# Altium footprint library volume_knob.PcbLib: 19 footprints (part 2 of 2)
Each footprint in its own frame and in the unit in brackets; x right, y up, seen from the top. Pads: shape width x height; smd on the part's side, far side on the other; paste and mask are expansions set on the pad; w line width, h text height; cw(c..) or ccw(c..) is an arc to the next point about the centre after c.
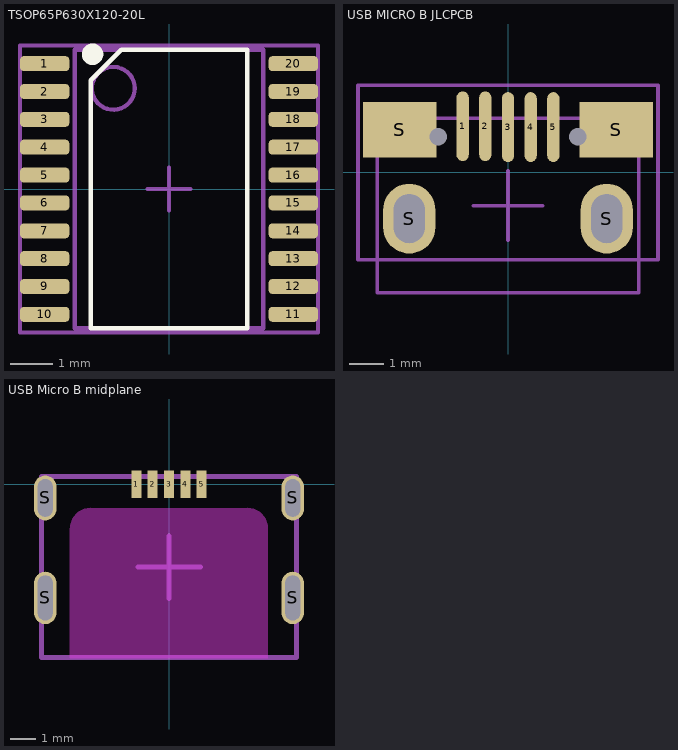
[diagram p1: the footprints below, top view; thin cyan lines are the x and y axes]

## TSOP65P630X120-20L [mm] "TSOPx20 6.45x4.35mm Pitch 0.65mm"
height 1.2
pads (20):
  rrect50% 1.15x0.35 smd: 1(-2.9,2.925) 2(-2.9,2.275) 3(-2.9,1.625) 4(-2.9,0.975) 5(-2.9,0.325) 6(-2.9,-0.325) 7(-2.9,-0.975) 8(-2.9,-1.625) 9(-2.9,-2.275) 10(-2.9,-2.925) 11(2.9,-2.925) 12(2.9,-2.275) 13(2.9,-1.625) 14(2.9,-0.975) 15(2.9,-0.325) 16(2.9,0.325) 17(2.9,0.975) 18(2.9,1.625) 19(2.9,2.275) 20(2.9,2.925)
Top Overlay:
  circle w0.25: c-1.784,3.143 r0.125
  lines w0.102: -1.825,-3.25 -1.825,2.54 -1.115,3.25 1.825,3.25 1.825,-3.25 -1.825,-3.25
Top Courtyard:
  lines w0.1: -0.5,0 0.5,0 ; 0,-0.5 0,0.5
  lines w0.102: -3.475,-3.35 -3.475,3.35 3.475,3.35 3.475,-3.35 -3.475,-3.35
Top Assembly:
  circle w0.1: c-1.299,2.349 r0.5
  lines w0.102: -2.2,-3.25 -2.2,3.25 2.2,3.25 2.2,-3.25 -2.2,-3.25
3D body "TSOP65P630X120-20L.step": height 1.2, standoff 0, extent -3.15,-3.25 3.15,3.25

## USB MICRO B JLCPCB [mm] "USB Micro B Receptacle"
pads (11):
  rrect100% 0.35x2 smd: 1(-1.3,1.325) 2(-0.65,1.325) 3(0,1.3) 4(0.65,1.3) 5(1.3,1.3)
  oval 0x0.5 hole 0.5 unplated paste+0 mask+0: B(-2,1.025) B(2,1.025)
  rrect1% 2.1x1.6 smd: S(-3.1,1.225) S(3.1,1.225)
  oval 1.5x2 hole 0.9 slot 1.4 at 90 deg: S(-2.83,-1.325) S(2.83,-1.325)
Top Courtyard:
  lines w0.102: -4.3,-2.5 4.3,-2.5 4.3,2.5 -4.3,2.5 -4.3,-2.5
Top Assembly:
  lines w0.102: -1,-0.95 1,-0.95 ; 0,-1.95 0,0.05 ; -3.75,-3.45 -3.75,1.55 3.75,1.55 3.75,-3.45 -3.75,-3.45

## USB Micro B midplane [mm] "Molex 47642 Type B Micro USB Receptacle"
pads (9):
  rrect1% 0.4x1.1 smd paste+0 mask+0.05: 1(-1.3,0) 2(-0.65,0) 3(0,0) 4(0.65,0) 5(1.3,0)
  oval 0.9x2.1 hole 0.6 slot 1.8 at 90 deg paste+0 mask+0: S(-4.95,-4.55) S(4.95,-4.55)
  oval 0.9x1.8 hole 0.6 slot 1.5 at 90 deg paste+0 mask+0: S(-4.95,-0.55) S(4.95,-0.55)
Keep-Out Layer:
  board cut-out: -3.95,-6.93 -3.95,-1.77 -3.95,-1.691 -3.919,-1.537 -3.859,-1.391 -3.771,-1.26 -3.66,-1.149 -3.529,-1.061 -3.383,-1.001 -3.229,-0.97 -3.15,-0.97 3.15,-0.97 3.229,-0.97 3.383,-1.001 3.529,-1.061 3.66,-1.149 3.771,-1.26 3.859,-1.391 3.919,-1.537 3.95,-1.691 3.95,-1.77 3.95,-6.93
  pour cut-out: -3.95,-6.934 -3.95,-1.77 -3.95,-1.691 -3.919,-1.537 -3.859,-1.391 -3.771,-1.26 -3.66,-1.149 -3.529,-1.061 -3.383,-1.001 -3.229,-0.97 -3.15,-0.97 3.15,-0.97 3.229,-0.97 3.383,-1.001 3.529,-1.061 3.66,-1.149 3.771,-1.26 3.859,-1.391 3.919,-1.537 3.95,-1.691 3.95,-1.77 3.95,-6.934
Keep-Out Layer:
  lines w0.025: -3.95,-6.934 -3.95,-1.77 cw(c-3.15,-1.77) -3.15,-0.97 3.15,-0.97 cw(c3.15,-1.77) 3.95,-1.77 3.95,-6.934 -3.95,-6.934
Top Courtyard:
  lines w0.2: -5.1,-6.93 5.1,-6.93 5.1,0.3 -5.1,0.3 -5.1,-6.93
Top Assembly:
  lines w0.2: -1.25,-3.315 1.25,-3.315 ; 0,-4.565 0,-2.065 ; -5.1,-6.93 5.1,-6.93 5.1,0.3 -5.1,0.3 -5.1,-6.93
3D body "usb_micro_b_molex_476420001 v4.step": height 1.8, standoff -1.17, extent -5.1,-6.93 5.1,0.3